# Altium schematic symbol library STISO621TR.SchLib: 1 symbol
Pins are listed as number, name and electrical type; pins without a type are passive.

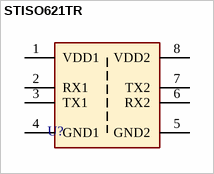
[diagram p0: symbol STISO621TR]

## STISO621TR
designator U?
=Description
pins: 1 VDD1, 2 RX1, 3 TX1, 4 GND1, 5 GND2, 6 RX2, 7 TX2, 8 VDD2